# EAGLE library part LOADCELL_AMP (library pie)
Sparkfun HX711 Load Cell Amp
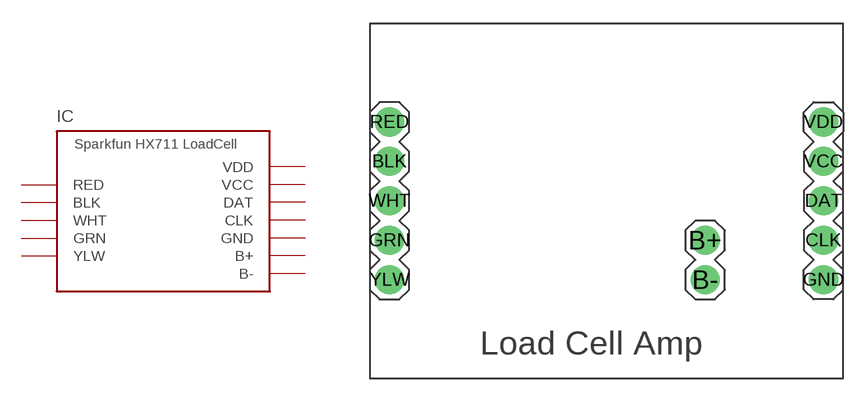
[diagram p36: symbol with the pads of LOADCELL_AMP; footprint LOADCELL_AMP]

Designator prefix IC

## LOADCELL_AMP  [LOADCELL_AMP]
B+  B+  in
B-  B-  in
BLK  BLK  in
CLK  CLK  in
DAT  DAT  in
GND  GND  in
GRN  GRN  in
RED  RED  in
VCC  VCC  in
VDD  VDD  in
WHT  WHT  in
YLW  YLW  in

## Footprint LOADCELL_AMP (pad centres in mm)
Sparkfun HX711 LoadCell
drill 1.016 pad 1.88: B+ 21.59,8.89; B- 21.59,6.35; BLK 1.27,13.97; CLK 29.21,8.89; DAT 29.21,11.43; GND 29.21,6.35; GRN 1.27,8.89; RED 1.27,16.51; VCC 29.21,13.97; VDD 29.21,16.51; WHT 1.27,11.43; YLW 1.27,6.35